# Altium footprint library 74HC21D,653.PcbLib: 1 footprints
Each footprint in its own frame and in the unit in brackets; x right, y up, seen from the top. Pads: shape width x height; smd on the part's side, far side on the other; paste and mask are expansions set on the pad; w line width, h text height; cw(c..) or ccw(c..) is an arc to the next point about the centre after c.
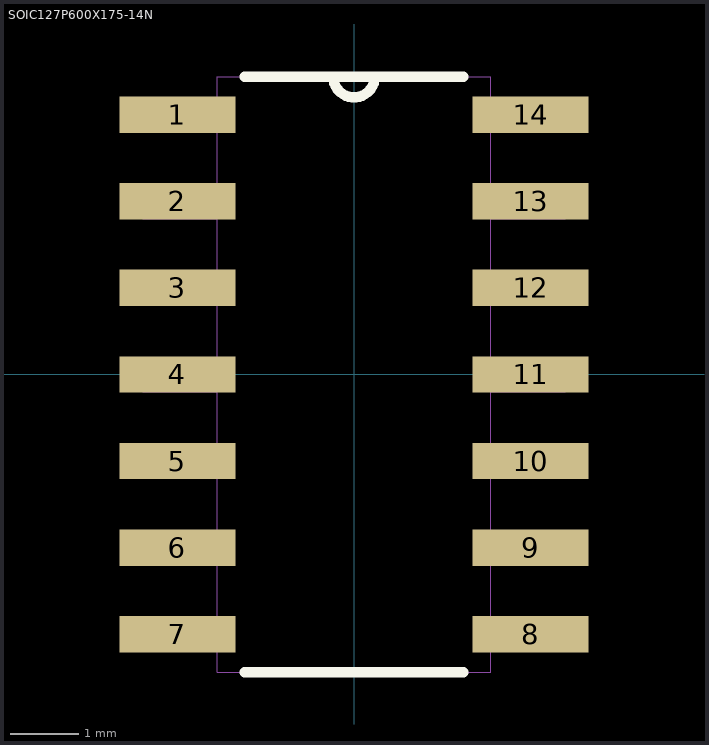
[diagram p0: the footprint, top view; thin cyan lines are the x and y axes]

## SOIC127P600X175-14N [mil]
pads (14):
  rect 67x21 smd: 1(-102,150) 2(-102,100) 3(-102,50) 4(-102,0) 5(-102,-50) 6(-102,-100) 7(-102,-150) 8(102,-150) 9(102,-100) 10(102,-50) 11(102,0) 12(102,50) 13(102,100) 14(102,150)
Top Overlay:
  lines w6: -63,-172 63,-172 ; -63,172 -12,172 ; 63,172 12,172 ; -12,172 ccw(c0,172) 12,172 ; -12,172 12,172
Mechanical 13:
  lines w0: -12,172 ccw(c0,172) 12,172 ; -12,172 -79,172 -79,-172 79,-172 79,172 12,172 ; -12,172 12,172 ; -122,-160 -79,-160 -79,-140 -122,-140 -122,-160 ; -122,-110 -79,-110 -79,-90 -122,-90 -122,-110 ; -122,-60 -79,-60 -79,-40 -122,-40 -122,-60 ; -122,-10 -79,-10 -79,10 -122,10 -122,-10 ; -122,40 -79,40 -79,60 -122,60 -122,40 ; -122,90 -79,90 -79,110 -122,110 -122,90 ; -122,140 -79,140 -79,160 -122,160 -122,140 ; 79,-160 122,-160 122,-140 79,-140 79,-160 ; 79,-110 122,-110 122,-90 79,-90 79,-110 ; 79,-60 122,-60 122,-40 79,-40 79,-60 ; 79,-10 122,-10 122,10 79,10 79,-10 ; 79,40 122,40 122,60 79,60 79,40 ; 79,90 122,90 122,110 79,110 79,90 ; 79,140 122,140 122,160 79,160 79,140